# EAGLE library part LTC3524 (library squirrel)
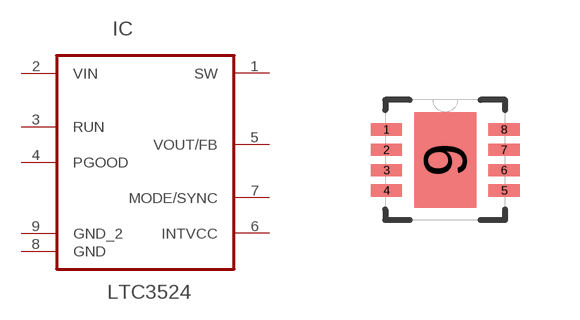
[diagram p10: symbol with the pads of DFN300X300X80-9N; footprint DFN300X300X80-9N]

Designator prefix IC

## LTC3524  [DFN300X300X80-9N]
1  SW  pas
2  VIN  pwr
3  RUN  in
4  PGOOD  in
5  VOUT/FB  out
6  INTVCC  out
7  MODE/SYNC  in
8  GND  pas
9  GND_2  pas

## Footprint DFN300X300X80-9N (pad centres in mm)
smd 0.787 x 0.305: 1 -1.473,0.762; 2 -1.473,0.254; 3 -1.473,-0.254; 4 -1.473,-0.762; 5 1.473,-0.762; 6 1.473,-0.254; 7 1.473,0.254; 8 1.473,0.762
smd 1.549 x 2.388: 9 0,0